# Altium footprint library QFN.PcbLib: 13 footprints
Each footprint in its own frame and in the unit in brackets; x right, y up, seen from the top. Pads: shape width x height; smd on the part's side, far side on the other; paste and mask are expansions set on the pad; w line width, h text height; cw(c..) or ccw(c..) is an arc to the next point about the centre after c.
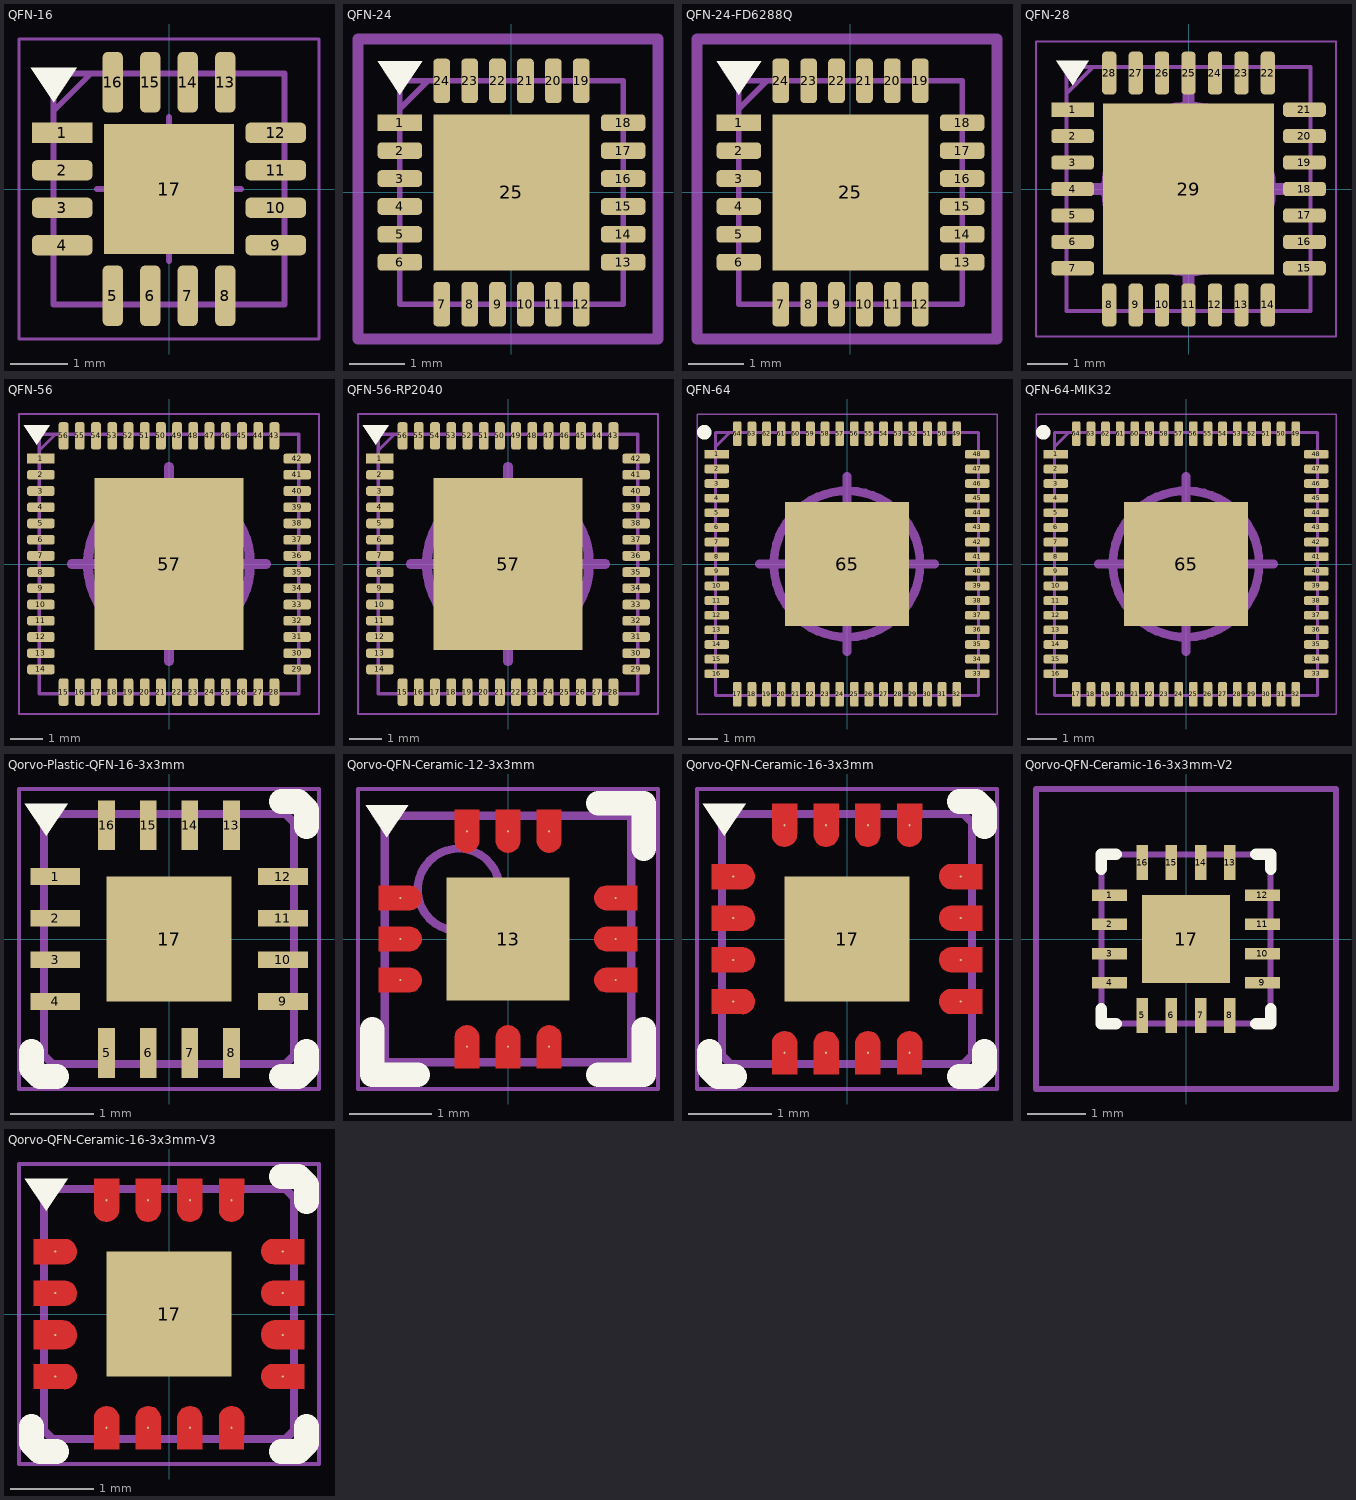
[diagram p0: the footprints below, top view; thin cyan lines are the x and y axes]

## QFN-16 [mm]
pads (17):
  rect 1.05x0.35 smd: 1(-1.85,0.975)
  rrect50% 1.05x0.35 smd: 2(-1.85,0.325) 3(-1.85,-0.325) 4(-1.85,-0.975) 9(1.85,-0.975) 10(1.85,-0.325) 11(1.85,0.325) 12(1.85,0.975)
  rrect50% 0.35x1.05 smd: 5(-0.975,-1.85) 6(-0.325,-1.85) 7(0.325,-1.85) 8(0.975,-1.85) 13(0.975,1.85) 14(0.325,1.85) 15(-0.325,1.85) 16(-0.975,1.85)
  rect 2.25x2.25 smd: 17(0,0)
Top Overlay:
  region: -1.6,2.1 -2.4,2.1 -2,1.5
Top Assembly:
  lines w0.1: -2,1.35 -1.35,2 ; -2,-2 2,-2 2,2 -2,2 -2,-2
Top Component Outline:
  circle w0.1: c0,0 r1
  lines w0.05: -2.6,-2.6 -2.6,2.6 2.6,2.6 2.6,-2.6 -2.6,-2.6
  lines w0.1: -1.25,0 1.25,0 ; 0,-1.25 0,1.25
3D body "QFN-16.stp": height 1, standoff 0, extent -2.355,-2.355 2.355,2.355

## QFN-24 [mm]
pads (25):
  rect 0.8x0.3 smd: 1(-2,1.25)
  rrect50% 0.8x0.3 smd: 2(-2,0.75) 3(-2,0.25) 4(-2,-0.25) 5(-2,-0.75) 6(-2,-1.25) 13(2,-1.25) 14(2,-0.75) 15(2,-0.25) 16(2,0.25) 17(2,0.75) 18(2,1.25)
  rrect50% 0.3x0.8 smd: 7(-1.25,-2) 8(-0.75,-2) 9(-0.25,-2) 10(0.25,-2) 11(0.75,-2) 12(1.25,-2) 19(1.25,2) 20(0.75,2) 21(0.25,2) 22(-0.25,2) 23(-0.75,2) 24(-1.25,2)
  rect 2.8x2.8 smd: 25(0,0)
Top Overlay:
  region: -1.6,2.35 -2.4,2.35 -2,1.75
Top Assembly:
  lines w0.1: -2,1.5 -1.5,2 ; -2,-2 2,-2 2,2 -2,2 -2,-2
Top Component Outline:
  circle w0.1: c0,0 r1
  lines w0.1: -1.25,0 1.25,0 ; 0,-1.25 0,1.25
  lines w0.2: -2.75,-2.625 2.625,-2.625 2.625,2.75 -2.75,2.75 -2.75,-2.625
3D body "QFN-24.stp": height 0.9, standoff 0, extent -2.4,-2.4 2.4,2.4

## QFN-24-FD6288Q [mm]
pads (25):
  rect 0.8x0.3 smd: 1(-2,1.25)
  rrect50% 0.8x0.3 smd: 2(-2,0.75) 3(-2,0.25) 4(-2,-0.25) 5(-2,-0.75) 6(-2,-1.25) 13(2,-1.25) 14(2,-0.75) 15(2,-0.25) 16(2,0.25) 17(2,0.75) 18(2,1.25)
  rrect50% 0.3x0.8 smd: 7(-1.25,-2) 8(-0.75,-2) 9(-0.25,-2) 10(0.25,-2) 11(0.75,-2) 12(1.25,-2) 19(1.25,2) 20(0.75,2) 21(0.25,2) 22(-0.25,2) 23(-0.75,2) 24(-1.25,2)
  rect 2.8x2.8 smd: 25(0,0)
Top Overlay:
  region: -1.6,2.35 -2.4,2.35 -2,1.75
Top Assembly:
  lines w0.1: -2,1.5 -1.5,2 ; -2,-2 -2,2 2,2 2,-2 -2,-2
Top Component Outline:
  circle w0.1: c0,0 r1
  lines w0.1: -1.25,0 1.25,0 ; 0,-1.25 0,1.25
  lines w0.2: -2.75,-2.625 -2.75,2.75 2.625,2.75 2.625,-2.625 -2.75,-2.625
3D body "QFN-24-FD6288Q.stp": height 0.85, standoff 0, extent -2.4,-2.4 2.4,2.4

## QFN-28 [mm]
pads (29):
  rect 1.05x0.35 smd: 1(-2.85,1.95)
  rrect50% 1.05x0.35 smd: 2(-2.85,1.3) 3(-2.85,0.65) 4(-2.85,0) 5(-2.85,-0.65) 6(-2.85,-1.3) 7(-2.85,-1.95) 15(2.85,-1.95) 16(2.85,-1.3) 17(2.85,-0.65) 18(2.85,0) 19(2.85,0.65) 20(2.85,1.3) 21(2.85,1.95)
  rrect50% 0.35x1.05 smd: 8(-1.95,-2.85) 9(-1.3,-2.85) 10(-0.65,-2.85) 11(0,-2.85) 12(0.65,-2.85) 13(1.3,-2.85) 14(1.95,-2.85) 22(1.95,2.85) 23(1.3,2.85) 24(0.65,2.85) 25(0,2.85) 26(-0.65,2.85) 27(-1.3,2.85) 28(-1.95,2.85)
  rect 4.2x4.2 smd: 29(0,0)
Top Overlay:
  region: -2.45,3.15 -3.25,3.15 -2.85,2.55
Top Assembly:
  lines w0.1: -3,2.35 -2.35,3 ; -3,-3 -3,3 3,3 3,-3 -3,-3
Top Component Outline:
  circle w0.3: c0,0 r2
  lines w0.05: -3.75,-3.625 -3.75,3.625 3.625,3.625 3.625,-3.625 -3.75,-3.625
  lines w0.3: -2.5,0 2.5,0 ; 0,-2.5 0,2.5
3D body "QFN-28.stp": height 1, standoff 0, extent -3.375,-3.375 3.375,3.375

## QFN-56 [mm]
pads (57):
  rect 0.85x0.3 smd: 1(-3.95,3.25)
  rrect50% 0.85x0.3 smd: 2(-3.95,2.75) 3(-3.95,2.25) 4(-3.95,1.75) 5(-3.95,1.25) 6(-3.95,0.75) 7(-3.95,0.25) 8(-3.95,-0.25) 9(-3.95,-0.75) 10(-3.95,-1.25) 11(-3.95,-1.75) 12(-3.95,-2.25) 13(-3.95,-2.75) 14(-3.95,-3.25) 29(3.95,-3.25) 30(3.95,-2.75) 31(3.95,-2.25) 32(3.95,-1.75) 33(3.95,-1.25) 34(3.95,-0.75) 35(3.95,-0.25) 36(3.95,0.25) 37(3.95,0.75) 38(3.95,1.25) 39(3.95,1.75) 40(3.95,2.25) 41(3.95,2.75) 42(3.95,3.25)
  rrect50% 0.3x0.85 smd: 15(-3.25,-3.95) 16(-2.75,-3.95) 17(-2.25,-3.95) 18(-1.75,-3.95) 19(-1.25,-3.95) 20(-0.75,-3.95) 21(-0.25,-3.95) 22(0.25,-3.95) 23(0.75,-3.95) 24(1.25,-3.95) 25(1.75,-3.95) 26(2.25,-3.95) 27(2.75,-3.95) 28(3.25,-3.95) 43(3.25,3.95) 44(2.75,3.95) 45(2.25,3.95) 46(1.75,3.95) 47(1.25,3.95) 48(0.75,3.95) 49(0.25,3.95) 50(-0.25,3.95) 51(-0.75,3.95) 52(-1.25,3.95) 53(-1.75,3.95) 54(-2.25,3.95) 55(-2.75,3.95) 56(-3.25,3.95)
  rect 4.6x5.3 smd: 57(0,0)
Top Overlay:
  region: -3.675,4.275 -4.475,4.275 -4.075,3.675
Top Assembly:
  lines w0.1: -4,3.5 -3.5,4 ; -4,-4 -4,4 4,4 4,-4 -4,-4
Top Component Outline:
  circle w0.3: c0,0 r2.5
  lines w0.05: -4.625,-4.625 4.625,-4.625 4.625,4.625 -4.625,4.625 -4.625,-4.625
  lines w0.3: -3,0 3,0 ; 0,-3 0,3
3D body "QFN-56.stp": height 1, standoff 0, extent -4.375,-4.375 4.375,4.375

## QFN-56-RP2040 [mm]
pads (57):
  rect 0.85x0.3 smd: 1(-3.95,3.25)
  rrect50% 0.85x0.3 smd: 2(-3.95,2.75) 3(-3.95,2.25) 4(-3.95,1.75) 5(-3.95,1.25) 6(-3.95,0.75) 7(-3.95,0.25) 8(-3.95,-0.25) 9(-3.95,-0.75) 10(-3.95,-1.25) 11(-3.95,-1.75) 12(-3.95,-2.25) 13(-3.95,-2.75) 14(-3.95,-3.25) 29(3.95,-3.25) 30(3.95,-2.75) 31(3.95,-2.25) 32(3.95,-1.75) 33(3.95,-1.25) 34(3.95,-0.75) 35(3.95,-0.25) 36(3.95,0.25) 37(3.95,0.75) 38(3.95,1.25) 39(3.95,1.75) 40(3.95,2.25) 41(3.95,2.75) 42(3.95,3.25)
  rrect50% 0.3x0.85 smd: 15(-3.25,-3.95) 16(-2.75,-3.95) 17(-2.25,-3.95) 18(-1.75,-3.95) 19(-1.25,-3.95) 20(-0.75,-3.95) 21(-0.25,-3.95) 22(0.25,-3.95) 23(0.75,-3.95) 24(1.25,-3.95) 25(1.75,-3.95) 26(2.25,-3.95) 27(2.75,-3.95) 28(3.25,-3.95) 43(3.25,3.95) 44(2.75,3.95) 45(2.25,3.95) 46(1.75,3.95) 47(1.25,3.95) 48(0.75,3.95) 49(0.25,3.95) 50(-0.25,3.95) 51(-0.75,3.95) 52(-1.25,3.95) 53(-1.75,3.95) 54(-2.25,3.95) 55(-2.75,3.95) 56(-3.25,3.95)
  rect 4.6x5.3 smd: 57(0,0)
Top Overlay:
  region: -3.675,4.275 -4.475,4.275 -4.075,3.675
Top Assembly:
  lines w0.1: -4,3.5 -3.5,4 ; -4,-4 -4,4 4,4 4,-4 -4,-4
Top Component Outline:
  circle w0.3: c0,0 r2.5
  lines w0.05: -4.625,-4.625 4.625,-4.625 4.625,4.625 -4.625,4.625 -4.625,-4.625
  lines w0.3: -3,0 3,0 ; 0,-3 0,3
3D body "QFN-56-RP2040.stp": height 1, standoff 0, extent -4.375,-4.375 4.375,4.375

## QFN-64 [mm]
pads (65):
  rect 0.85x0.3 smd: 1(-4.45,3.75)
  rrect50% 0.85x0.3 smd: 2(-4.45,3.25) 3(-4.45,2.75) 4(-4.45,2.25) 5(-4.45,1.75) 6(-4.45,1.25) 7(-4.45,0.75) 8(-4.45,0.25) 9(-4.45,-0.25) 10(-4.45,-0.75) 11(-4.45,-1.25) 12(-4.45,-1.75) 13(-4.45,-2.25) 14(-4.45,-2.75) 15(-4.45,-3.25) 16(-4.45,-3.75) 33(4.45,-3.75) 34(4.45,-3.25) 35(4.45,-2.75) 36(4.45,-2.25) 37(4.45,-1.75) 38(4.45,-1.25) 39(4.45,-0.75) 40(4.45,-0.25) 41(4.45,0.25) 42(4.45,0.75) 43(4.45,1.25) 44(4.45,1.75) 45(4.45,2.25) 46(4.45,2.75) 47(4.45,3.25) 48(4.45,3.75)
  rrect50% 0.3x0.85 smd: 17(-3.75,-4.45) 18(-3.25,-4.45) 19(-2.75,-4.45) 20(-2.25,-4.45) 21(-1.75,-4.45) 22(-1.25,-4.45) 23(-0.75,-4.45) 24(-0.25,-4.45) 25(0.25,-4.45) 26(0.75,-4.45) 27(1.25,-4.45) 28(1.75,-4.45) 29(2.25,-4.45) 30(2.75,-4.45) 31(3.25,-4.45) 32(3.75,-4.45) 49(3.75,4.45) 50(3.25,4.45) 51(2.75,4.45) 52(2.25,4.45) 53(1.75,4.45) 54(1.25,4.45) 55(0.75,4.45) 56(0.25,4.45) 57(-0.25,4.45) 58(-0.75,4.45) 59(-1.25,4.45) 60(-1.75,4.45) 61(-2.25,4.45) 62(-2.75,4.45) 63(-3.25,4.45) 64(-3.75,4.45)
  rect 4.25x4.25 smd: 65(0,0)
Top Overlay:
  circle w0.25: c-4.875,4.5 r0.125
Top Assembly:
  lines w0.1: -4.5,4 -4,4.5 ; -4.5,-4.5 4.5,-4.5 4.5,4.5 -4.5,4.5 -4.5,-4.5
Top Component Outline:
  circle w0.3: c0,0 r2.5
  lines w0.05: -5.125,-5.125 5.125,-5.125 5.125,5.125 -5.125,5.125 -5.125,-5.125
  lines w0.3: -3,0 3,0 ; 0,-3 0,3
3D body "QFN-64.stp": height 0.9, standoff 0, extent -4.855,-4.855 4.855,4.855

## QFN-64-MIK32 [mm]
pads (65):
  rect 0.85x0.3 smd: 1(-4.45,3.75)
  rrect50% 0.85x0.3 smd: 2(-4.45,3.25) 3(-4.45,2.75) 4(-4.45,2.25) 5(-4.45,1.75) 6(-4.45,1.25) 7(-4.45,0.75) 8(-4.45,0.25) 9(-4.45,-0.25) 10(-4.45,-0.75) 11(-4.45,-1.25) 12(-4.45,-1.75) 13(-4.45,-2.25) 14(-4.45,-2.75) 15(-4.45,-3.25) 16(-4.45,-3.75) 33(4.45,-3.75) 34(4.45,-3.25) 35(4.45,-2.75) 36(4.45,-2.25) 37(4.45,-1.75) 38(4.45,-1.25) 39(4.45,-0.75) 40(4.45,-0.25) 41(4.45,0.25) 42(4.45,0.75) 43(4.45,1.25) 44(4.45,1.75) 45(4.45,2.25) 46(4.45,2.75) 47(4.45,3.25) 48(4.45,3.75)
  rrect50% 0.3x0.85 smd: 17(-3.75,-4.45) 18(-3.25,-4.45) 19(-2.75,-4.45) 20(-2.25,-4.45) 21(-1.75,-4.45) 22(-1.25,-4.45) 23(-0.75,-4.45) 24(-0.25,-4.45) 25(0.25,-4.45) 26(0.75,-4.45) 27(1.25,-4.45) 28(1.75,-4.45) 29(2.25,-4.45) 30(2.75,-4.45) 31(3.25,-4.45) 32(3.75,-4.45) 49(3.75,4.45) 50(3.25,4.45) 51(2.75,4.45) 52(2.25,4.45) 53(1.75,4.45) 54(1.25,4.45) 55(0.75,4.45) 56(0.25,4.45) 57(-0.25,4.45) 58(-0.75,4.45) 59(-1.25,4.45) 60(-1.75,4.45) 61(-2.25,4.45) 62(-2.75,4.45) 63(-3.25,4.45) 64(-3.75,4.45)
  rect 4.25x4.25 smd: 65(0,0)
Top Overlay:
  circle w0.25: c-4.875,4.5 r0.125
Top Assembly:
  lines w0.1: -4.5,4 -4,4.5 ; -4.5,-4.5 4.5,-4.5 4.5,4.5 -4.5,4.5 -4.5,-4.5
Top Component Outline:
  circle w0.3: c0,0 r2.5
  lines w0.05: -5.125,-5.125 5.125,-5.125 5.125,5.125 -5.125,5.125 -5.125,-5.125
  lines w0.3: -3,0 3,0 ; 0,-3 0,3
3D body "QFN-64_MIK32.stp": height 1, standoff 0, extent -4.855,-4.855 4.855,4.855

## Qorvo-Plastic-QFN-16-3x3mm [mm]
height 0.8
pads (17):
  rect 0.6x0.2 smd mask+0.15: 1(-1.365,0.75) 2(-1.365,0.25) 3(-1.365,-0.25) 4(-1.365,-0.75) 9(1.365,-0.75) 10(1.365,-0.25) 11(1.365,0.25) 12(1.365,0.75)
  rect 0.2x0.6 smd mask+0.15: 5(-0.75,-1.365) 6(-0.25,-1.365) 7(0.25,-1.365) 8(0.75,-1.365) 13(0.75,1.365) 14(0.25,1.365) 15(-0.25,1.365) 16(-0.75,1.365)
  rect 1.5x1.5 smd mask+0.15: 17(0,0)
Top Overlay:
  region: -1.216,1.626 -1.731,1.626 -1.473,1.239
  lines w0.3: -1.65,-1.35 -1.65,-1.55 -1.55,-1.65 -1.35,-1.65 ; 1.35,-1.65 1.55,-1.65 1.65,-1.55 1.65,-1.35 ; 1.35,1.65 1.55,1.65 1.65,1.55 1.65,1.35
Top Assembly:
  lines w0.1: -1.5,-1.4 -1.5,1.4 -1.4,1.5 1.4,1.5 1.5,1.4 1.5,-1.4 1.4,-1.5 -1.4,-1.5 -1.5,-1.4
Top Component Outline:
  lines w0.05: -1.8,-1.8 -1.8,1.8 1.8,1.8 1.8,-1.8 -1.8,-1.8
Bottom Component Outline:
  lines w0.1: -0.5,0 0.5,0 ; 0,-0.5 0,0.5
3D body "Qorvo-Plastic-QFN-16-3x3mm.stp": height 0.8, standoff 0, extent -1.665,-1.665 1.665,1.665

## Qorvo-QFN-Ceramic-12-3x3mm [mil]
height 31.5
pads (13):
  round 1 smd mask+4.72: 1(-51.57,19.69) 2(-51.57,0) 3(-51.57,-19.68) 4(-19.69,-51.57) 5(0,-51.57) 6(19.68,-51.57) 7(51.57,-19.69) 8(51.57,0) 9(51.57,19.68) 10(19.69,51.57) 11(0,51.57) 12(-19.68,51.57)
  rect 59.06x59.06 smd mask+4.72: 13(0,0)
Top Layer:
  region: -25.59,61.81 -25.59,47.22 -25.59,46.64 -25.36,45.5 -24.92,44.43 -24.28,43.47 -23.46,42.65 -22.49,42.01 -21.42,41.56 -20.29,41.34 -19.71,41.34 -19.12,41.34 -17.98,41.57 -16.9,42.01 -15.93,42.66 -15.1,43.49 -14.45,44.46 -14.01,45.54 -13.78,46.68 -13.78,47.27 -13.78,61.81
  region: -5.91,61.81 -5.91,47.22 -5.91,46.64 -5.68,45.5 -5.24,44.43 -4.59,43.47 -3.77,42.65 -2.81,42.01 -1.74,41.56 -0.6,41.34 -0.02,41.34 0.56,41.34 1.71,41.57 2.78,42.01 3.76,42.66 4.58,43.49 5.23,44.46 5.68,45.54 5.91,46.68 5.91,47.27 5.91,61.81
  region: 13.78,61.81 13.78,47.22 13.78,46.64 14.01,45.5 14.45,44.43 15.09,43.47 15.91,42.65 16.88,42.01 17.95,41.56 19.08,41.34 19.66,41.34 20.25,41.34 21.39,41.57 22.47,42.01 23.44,42.66 24.27,43.49 24.92,44.46 25.36,45.54 25.59,46.68 25.59,47.27 25.59,61.81
  region: 61.81,25.59 47.22,25.59 46.64,25.59 45.5,25.36 44.43,24.92 43.47,24.28 42.65,23.46 42.01,22.49 41.56,21.42 41.34,20.29 41.34,19.71 41.34,19.12 41.57,17.98 42.01,16.9 42.66,15.93 43.49,15.1 44.46,14.45 45.54,14.01 46.68,13.78 47.27,13.78 61.81,13.78
  region: 61.81,5.91 47.22,5.91 46.64,5.91 45.5,5.68 44.43,5.24 43.47,4.59 42.65,3.77 42.01,2.81 41.56,1.74 41.34,0.6 41.34,0.02 41.34,-0.56 41.57,-1.71 42.01,-2.78 42.66,-3.76 43.49,-4.58 44.46,-5.23 45.54,-5.68 46.68,-5.91 47.27,-5.91 61.81,-5.91
  region: 61.81,-13.78 47.22,-13.78 46.64,-13.78 45.5,-14.01 44.43,-14.45 43.47,-15.09 42.65,-15.91 42.01,-16.88 41.56,-17.95 41.34,-19.08 41.34,-19.66 41.34,-20.25 41.57,-21.39 42.01,-22.47 42.66,-23.44 43.49,-24.27 44.46,-24.92 45.54,-25.36 46.68,-25.59 47.27,-25.59 61.81,-25.59
  region: 25.59,-61.81 25.59,-47.22 25.59,-46.64 25.36,-45.5 24.92,-44.43 24.28,-43.47 23.46,-42.65 22.49,-42.01 21.42,-41.56 20.29,-41.34 19.71,-41.34 19.12,-41.34 17.98,-41.57 16.9,-42.01 15.93,-42.66 15.1,-43.49 14.45,-44.46 14.01,-45.54 13.78,-46.68 13.78,-47.27 13.78,-61.81
  region: 5.91,-61.81 5.91,-47.22 5.91,-46.64 5.68,-45.5 5.24,-44.43 4.59,-43.47 3.77,-42.65 2.81,-42.01 1.74,-41.56 0.6,-41.34 0.02,-41.34 -0.56,-41.34 -1.71,-41.57 -2.78,-42.01 -3.76,-42.66 -4.58,-43.49 -5.23,-44.46 -5.68,-45.54 -5.91,-46.68 -5.91,-47.27 -5.91,-61.81
  region: -13.78,-61.81 -13.78,-47.22 -13.78,-46.64 -14.01,-45.5 -14.45,-44.43 -15.09,-43.47 -15.91,-42.65 -16.88,-42.01 -17.95,-41.56 -19.08,-41.34 -19.66,-41.34 -20.25,-41.34 -21.39,-41.57 -22.47,-42.01 -23.44,-42.66 -24.27,-43.49 -24.92,-44.46 -25.36,-45.54 -25.59,-46.68 -25.59,-47.27 -25.59,-61.81
  region: -61.81,-25.59 -47.22,-25.59 -46.64,-25.59 -45.5,-25.36 -44.43,-24.92 -43.47,-24.28 -42.65,-23.46 -42.01,-22.49 -41.56,-21.42 -41.34,-20.29 -41.34,-19.71 -41.34,-19.12 -41.57,-17.98 -42.01,-16.9 -42.66,-15.93 -43.49,-15.1 -44.46,-14.45 -45.54,-14.01 -46.68,-13.78 -47.27,-13.78 -61.81,-13.78
  region: -61.81,-5.91 -47.22,-5.91 -46.64,-5.91 -45.5,-5.68 -44.43,-5.24 -43.47,-4.59 -42.65,-3.77 -42.01,-2.81 -41.56,-1.74 -41.34,-0.6 -41.34,-0.02 -41.34,0.56 -41.57,1.71 -42.01,2.78 -42.66,3.76 -43.49,4.58 -44.46,5.23 -45.54,5.68 -46.68,5.91 -47.27,5.91 -61.81,5.91
  region: -61.81,13.78 -47.22,13.78 -46.64,13.78 -45.5,14.01 -44.43,14.45 -43.47,15.09 -42.65,15.91 -42.01,16.88 -41.56,17.95 -41.34,19.08 -41.34,19.66 -41.34,20.25 -41.57,21.39 -42.01,22.47 -42.66,23.44 -43.49,24.27 -44.46,24.92 -45.54,25.36 -46.68,25.59 -47.27,25.59 -61.81,25.59
Top Overlay:
  region: -47.86,64 -68.14,64 -58,48.8
  lines w11.81: -64.96,-43.31 -64.96,-64.96 -43.31,-64.96 ; 43.31,-64.96 64.96,-64.96 64.96,-43.31 ; 43.31,64.96 64.96,64.96 64.96,43.31
Top Assembly:
  circle w3.94: c-23.62,23.62 r19.68
  lines w3.94: -59.06,-59.06 -59.06,59.06 59.06,59.06 59.06,-59.06 -59.06,-59.06
Top Component Outline:
  lines w1.97: -71.85,-71.85 71.85,-71.85 71.85,71.85 -71.85,71.85 -71.85,-71.85
Bottom Component Outline:
  lines w3.94: -19.69,0 19.68,0 ; 0,-19.68 0,19.69
3D body "Qorvo-QFN-Ceramic-12-3x3mm.stp": height 31.5, standoff 0, extent -61.81,-61.81 61.81,61.81

## Qorvo-QFN-Ceramic-16-3x3mm [mm]
height 0.8
pads (17):
  round 0.025 smd mask+0.12: 1(-1.365,0.75) 2(-1.365,0.25) 3(-1.365,-0.25) 4(-1.365,-0.75) 5(-0.75,-1.365) 6(-0.25,-1.365) 7(0.25,-1.365) 8(0.75,-1.365) 9(1.365,-0.75) 10(1.365,-0.25) 11(1.365,0.25) 12(1.365,0.75) 13(0.75,1.365) 14(0.25,1.365) 15(-0.25,1.365) 16(-0.75,1.365)
  rect 1.5x1.5 smd mask+0.12: 17(0,0)
Top Layer:
  region: -1.625,0.6 -1.254,0.6 -1.24,0.6 -1.211,0.606 -1.184,0.617 -1.159,0.633 -1.138,0.654 -1.122,0.679 -1.111,0.706 -1.105,0.735 -1.105,0.749 -1.105,0.764 -1.111,0.793 -1.122,0.821 -1.139,0.845 -1.16,0.866 -1.184,0.883 -1.212,0.894 -1.241,0.9 -1.256,0.9 -1.625,0.9
  region: -1.625,0.1 -1.254,0.1 -1.24,0.1 -1.211,0.106 -1.184,0.117 -1.159,0.133 -1.138,0.154 -1.122,0.179 -1.111,0.206 -1.105,0.235 -1.105,0.249 -1.105,0.264 -1.111,0.293 -1.122,0.321 -1.139,0.345 -1.16,0.366 -1.184,0.383 -1.212,0.394 -1.241,0.4 -1.256,0.4 -1.625,0.4
  region: -1.625,-0.4 -1.254,-0.4 -1.24,-0.4 -1.211,-0.394 -1.184,-0.383 -1.159,-0.367 -1.138,-0.346 -1.122,-0.321 -1.111,-0.294 -1.105,-0.265 -1.105,-0.251 -1.105,-0.236 -1.111,-0.207 -1.122,-0.179 -1.139,-0.155 -1.16,-0.134 -1.184,-0.117 -1.212,-0.106 -1.241,-0.1 -1.256,-0.1 -1.625,-0.1
  region: -1.625,-0.9 -1.254,-0.9 -1.24,-0.9 -1.211,-0.894 -1.184,-0.883 -1.159,-0.867 -1.138,-0.846 -1.122,-0.821 -1.111,-0.794 -1.105,-0.765 -1.105,-0.751 -1.105,-0.736 -1.111,-0.707 -1.122,-0.679 -1.139,-0.655 -1.16,-0.634 -1.184,-0.617 -1.212,-0.606 -1.241,-0.6 -1.256,-0.6 -1.625,-0.6
  region: -0.6,-1.625 -0.6,-1.254 -0.6,-1.24 -0.606,-1.211 -0.617,-1.184 -0.633,-1.159 -0.654,-1.138 -0.679,-1.122 -0.706,-1.111 -0.735,-1.105 -0.749,-1.105 -0.764,-1.105 -0.793,-1.111 -0.821,-1.122 -0.845,-1.139 -0.866,-1.16 -0.883,-1.184 -0.894,-1.212 -0.9,-1.241 -0.9,-1.256 -0.9,-1.625
  region: -0.1,-1.625 -0.1,-1.254 -0.1,-1.24 -0.106,-1.211 -0.117,-1.184 -0.133,-1.159 -0.154,-1.138 -0.179,-1.122 -0.206,-1.111 -0.235,-1.105 -0.249,-1.105 -0.264,-1.105 -0.293,-1.111 -0.321,-1.122 -0.345,-1.139 -0.366,-1.16 -0.383,-1.184 -0.394,-1.212 -0.4,-1.241 -0.4,-1.256 -0.4,-1.625
  region: 0.4,-1.625 0.4,-1.254 0.4,-1.24 0.394,-1.211 0.383,-1.184 0.367,-1.159 0.346,-1.138 0.321,-1.122 0.294,-1.111 0.265,-1.105 0.251,-1.105 0.236,-1.105 0.207,-1.111 0.179,-1.122 0.155,-1.139 0.134,-1.16 0.117,-1.184 0.106,-1.212 0.1,-1.241 0.1,-1.256 0.1,-1.625
  region: 0.9,-1.625 0.9,-1.254 0.9,-1.24 0.894,-1.211 0.883,-1.184 0.867,-1.159 0.846,-1.138 0.821,-1.122 0.794,-1.111 0.765,-1.105 0.751,-1.105 0.736,-1.105 0.707,-1.111 0.679,-1.122 0.655,-1.139 0.634,-1.16 0.617,-1.184 0.606,-1.212 0.6,-1.241 0.6,-1.256 0.6,-1.625
  region: 1.625,-0.6 1.254,-0.6 1.24,-0.6 1.211,-0.606 1.184,-0.617 1.159,-0.633 1.138,-0.654 1.122,-0.679 1.111,-0.706 1.105,-0.735 1.105,-0.749 1.105,-0.764 1.111,-0.793 1.122,-0.821 1.139,-0.845 1.16,-0.866 1.184,-0.883 1.212,-0.894 1.241,-0.9 1.256,-0.9 1.625,-0.9
  region: 1.625,-0.1 1.254,-0.1 1.24,-0.1 1.211,-0.106 1.184,-0.117 1.159,-0.133 1.138,-0.154 1.122,-0.179 1.111,-0.206 1.105,-0.235 1.105,-0.249 1.105,-0.264 1.111,-0.293 1.122,-0.321 1.139,-0.345 1.16,-0.366 1.184,-0.383 1.212,-0.394 1.241,-0.4 1.256,-0.4 1.625,-0.4
  region: 1.625,0.4 1.254,0.4 1.24,0.4 1.211,0.394 1.184,0.383 1.159,0.367 1.138,0.346 1.122,0.321 1.111,0.294 1.105,0.265 1.105,0.251 1.105,0.236 1.111,0.207 1.122,0.179 1.139,0.155 1.16,0.134 1.184,0.117 1.212,0.106 1.241,0.1 1.256,0.1 1.625,0.1
  region: 1.625,0.9 1.254,0.9 1.24,0.9 1.211,0.894 1.184,0.883 1.159,0.867 1.138,0.846 1.122,0.821 1.111,0.794 1.105,0.765 1.105,0.751 1.105,0.736 1.111,0.707 1.122,0.679 1.139,0.655 1.16,0.634 1.184,0.617 1.212,0.606 1.241,0.6 1.256,0.6 1.625,0.6
  region: 0.6,1.625 0.6,1.254 0.6,1.24 0.606,1.211 0.617,1.184 0.633,1.159 0.654,1.138 0.679,1.122 0.706,1.111 0.735,1.105 0.749,1.105 0.764,1.105 0.793,1.111 0.821,1.122 0.845,1.139 0.866,1.16 0.883,1.184 0.894,1.212 0.9,1.241 0.9,1.256 0.9,1.625
  region: 0.1,1.625 0.1,1.254 0.1,1.24 0.106,1.211 0.117,1.184 0.133,1.159 0.154,1.138 0.179,1.122 0.206,1.111 0.235,1.105 0.249,1.105 0.264,1.105 0.293,1.111 0.321,1.122 0.345,1.139 0.366,1.16 0.383,1.184 0.394,1.212 0.4,1.241 0.4,1.256 0.4,1.625
  region: -0.4,1.625 -0.4,1.254 -0.4,1.24 -0.394,1.211 -0.383,1.184 -0.367,1.159 -0.346,1.138 -0.321,1.122 -0.294,1.111 -0.265,1.105 -0.251,1.105 -0.236,1.105 -0.207,1.111 -0.179,1.122 -0.155,1.139 -0.134,1.16 -0.117,1.184 -0.106,1.212 -0.1,1.241 -0.1,1.256 -0.1,1.625
  region: -0.9,1.625 -0.9,1.254 -0.9,1.24 -0.894,1.211 -0.883,1.184 -0.867,1.159 -0.846,1.138 -0.821,1.122 -0.794,1.111 -0.765,1.105 -0.751,1.105 -0.736,1.105 -0.707,1.111 -0.679,1.122 -0.655,1.139 -0.634,1.16 -0.617,1.184 -0.606,1.212 -0.6,1.241 -0.6,1.256 -0.6,1.625
Top Overlay:
  region: -1.216,1.626 -1.731,1.626 -1.473,1.239
  lines w0.3: -1.65,-1.35 -1.65,-1.55 -1.55,-1.65 -1.35,-1.65 ; 1.35,-1.65 1.55,-1.65 1.65,-1.55 1.65,-1.35 ; 1.35,1.65 1.55,1.65 1.65,1.55 1.65,1.35
Top Assembly:
  lines w0.1: -1.5,-1.4 -1.4,-1.5 1.4,-1.5 1.5,-1.4 1.5,1.4 1.4,1.5 -1.4,1.5 -1.5,1.4 -1.5,-1.4
Top Component Outline:
  lines w0.05: -1.8,-1.8 1.8,-1.8 1.8,1.8 -1.8,1.8 -1.8,-1.8
Bottom Component Outline:
  lines w0.1: -0.5,0 0.5,0 ; 0,-0.5 0,0.5
3D body "Qorvo-QFN-Ceramic-16-3x3mm-v2.stp": height 0.8, standoff 0, extent -1.625,-1.625 1.625,1.625

## Qorvo-QFN-Ceramic-16-3x3mm-V2 [mm] "Compliant 3x3 SMT Package"
pads (17):
  rect 0.6x0.2 smd: 1(-1.31,0.75) 2(-1.31,0.25) 3(-1.31,-0.25) 4(-1.31,-0.75) 9(1.31,-0.75) 10(1.31,-0.25) 11(1.31,0.25) 12(1.31,0.75)
  rect 0.2x0.6 smd: 5(-0.75,-1.31) 6(-0.25,-1.31) 7(0.25,-1.31) 8(0.75,-1.31) 13(0.75,1.31) 14(0.25,1.31) 15(-0.25,1.31) 16(-0.75,1.31)
  rect 1.5x1.5 smd: 17(0,0)
Top Overlay:
  lines w0.2: -1.45,-1.2 -1.45,-1.45 -1.2,-1.45 ; -1.45,1.2 -1.45,1.45 -1.2,1.45 ; 1.2,-1.45 1.45,-1.45 1.45,-1.2 ; 1.2,1.45 1.45,1.45 1.45,1.2
Top Assembly:
  lines w0.1: -1.45,-1.45 1.45,-1.45 1.45,1.45 -1.45,1.45 -1.45,-1.45
Mechanical 20:
  lines w0.1: -2.57,-2.57 -2.57,2.57 2.57,2.57 2.57,-2.57 -2.57,-2.57
3D body "Qorvo-QFN-Ceramic-16-3x3mm-v2.stp": height 0.8, standoff 0, extent -1.625,-1.625 1.625,1.625

## Qorvo-QFN-Ceramic-16-3x3mm-V3 [mm] "Compliant 3x3 SMT Package / 0.355mm (18GHz)"
height 0.8
pads (17):
  round 0.025 smd mask+0.12: 1(-1.365,0.75) 2(-1.365,0.25) 3(-1.365,-0.25) 4(-1.365,-0.75) 5(-0.75,-1.365) 6(-0.25,-1.365) 7(0.25,-1.365) 8(0.75,-1.365) 9(1.365,-0.75) 10(1.365,-0.25) 11(1.365,0.25) 12(1.365,0.75) 13(0.75,1.365) 14(0.25,1.365) 15(-0.25,1.365) 16(-0.75,1.365)
  rect 1.5x1.5 smd mask+0.12: 17(0,0)
Top Layer:
  region: -1.625,0.6 -1.254,0.6 -1.24,0.6 -1.211,0.606 -1.184,0.617 -1.159,0.633 -1.138,0.654 -1.122,0.679 -1.111,0.706 -1.105,0.735 -1.105,0.749 -1.105,0.764 -1.111,0.793 -1.122,0.821 -1.139,0.845 -1.16,0.866 -1.184,0.883 -1.212,0.894 -1.241,0.9 -1.256,0.9 -1.625,0.9
  region: -1.625,0.1 -1.254,0.1 -1.24,0.1 -1.211,0.106 -1.184,0.117 -1.159,0.133 -1.138,0.154 -1.122,0.179 -1.111,0.206 -1.105,0.235 -1.105,0.249 -1.105,0.264 -1.111,0.293 -1.122,0.321 -1.139,0.345 -1.16,0.366 -1.184,0.383 -1.212,0.394 -1.241,0.4 -1.256,0.4 -1.625,0.4
  region: -1.625,-0.9 -1.254,-0.9 -1.24,-0.9 -1.211,-0.894 -1.184,-0.883 -1.159,-0.867 -1.138,-0.846 -1.122,-0.821 -1.111,-0.794 -1.105,-0.765 -1.105,-0.751 -1.105,-0.736 -1.111,-0.707 -1.122,-0.679 -1.139,-0.655 -1.16,-0.634 -1.184,-0.617 -1.212,-0.606 -1.241,-0.6 -1.256,-0.6 -1.625,-0.6
  region: -0.6,-1.625 -0.6,-1.254 -0.6,-1.24 -0.606,-1.211 -0.617,-1.184 -0.633,-1.159 -0.654,-1.138 -0.679,-1.122 -0.706,-1.111 -0.735,-1.105 -0.749,-1.105 -0.764,-1.105 -0.793,-1.111 -0.821,-1.122 -0.845,-1.139 -0.866,-1.16 -0.883,-1.184 -0.894,-1.212 -0.9,-1.241 -0.9,-1.256 -0.9,-1.625
  region: -0.1,-1.625 -0.1,-1.254 -0.1,-1.24 -0.106,-1.211 -0.117,-1.184 -0.133,-1.159 -0.154,-1.138 -0.179,-1.122 -0.206,-1.111 -0.235,-1.105 -0.249,-1.105 -0.264,-1.105 -0.293,-1.111 -0.321,-1.122 -0.345,-1.139 -0.366,-1.16 -0.383,-1.184 -0.394,-1.212 -0.4,-1.241 -0.4,-1.256 -0.4,-1.625
  region: 0.4,-1.625 0.4,-1.254 0.4,-1.24 0.394,-1.211 0.383,-1.184 0.367,-1.159 0.346,-1.138 0.321,-1.122 0.294,-1.111 0.265,-1.105 0.251,-1.105 0.236,-1.105 0.207,-1.111 0.179,-1.122 0.155,-1.139 0.134,-1.16 0.117,-1.184 0.106,-1.212 0.1,-1.241 0.1,-1.256 0.1,-1.625
  region: 0.9,-1.625 0.9,-1.254 0.9,-1.24 0.894,-1.211 0.883,-1.184 0.867,-1.159 0.846,-1.138 0.821,-1.122 0.794,-1.111 0.765,-1.105 0.751,-1.105 0.736,-1.105 0.707,-1.111 0.679,-1.122 0.655,-1.139 0.634,-1.16 0.617,-1.184 0.606,-1.212 0.6,-1.241 0.6,-1.256 0.6,-1.625
  region: 1.625,-0.6 1.254,-0.6 1.24,-0.6 1.211,-0.606 1.184,-0.617 1.159,-0.633 1.138,-0.654 1.122,-0.679 1.111,-0.706 1.105,-0.735 1.105,-0.749 1.105,-0.764 1.111,-0.793 1.122,-0.821 1.139,-0.845 1.16,-0.866 1.184,-0.883 1.212,-0.894 1.241,-0.9 1.256,-0.9 1.625,-0.9
  region: 1.625,0.4 1.254,0.4 1.24,0.4 1.211,0.394 1.184,0.383 1.159,0.367 1.138,0.346 1.122,0.321 1.111,0.294 1.105,0.265 1.105,0.251 1.105,0.236 1.111,0.207 1.122,0.179 1.139,0.155 1.16,0.134 1.184,0.117 1.212,0.106 1.241,0.1 1.256,0.1 1.625,0.1
  region: 1.625,0.9 1.254,0.9 1.24,0.9 1.211,0.894 1.184,0.883 1.159,0.867 1.138,0.846 1.122,0.821 1.111,0.794 1.105,0.765 1.105,0.751 1.105,0.736 1.111,0.707 1.122,0.679 1.139,0.655 1.16,0.634 1.184,0.617 1.212,0.606 1.241,0.6 1.256,0.6 1.625,0.6
  region: 0.6,1.625 0.6,1.254 0.6,1.24 0.606,1.211 0.617,1.184 0.633,1.159 0.654,1.138 0.679,1.122 0.706,1.111 0.735,1.105 0.749,1.105 0.764,1.105 0.793,1.111 0.821,1.122 0.845,1.139 0.866,1.16 0.883,1.184 0.894,1.212 0.9,1.241 0.9,1.256 0.9,1.625
  region: 0.1,1.625 0.1,1.254 0.1,1.24 0.106,1.211 0.117,1.184 0.133,1.159 0.154,1.138 0.179,1.122 0.206,1.111 0.235,1.105 0.249,1.105 0.264,1.105 0.293,1.111 0.321,1.122 0.345,1.139 0.366,1.16 0.383,1.184 0.394,1.212 0.4,1.241 0.4,1.256 0.4,1.625
  region: -0.4,1.625 -0.4,1.254 -0.4,1.24 -0.394,1.211 -0.383,1.184 -0.367,1.159 -0.346,1.138 -0.321,1.122 -0.294,1.111 -0.265,1.105 -0.251,1.105 -0.236,1.105 -0.207,1.111 -0.179,1.122 -0.155,1.139 -0.134,1.16 -0.117,1.184 -0.106,1.212 -0.1,1.241 -0.1,1.256 -0.1,1.625
  region: -0.9,1.625 -0.9,1.254 -0.9,1.24 -0.894,1.211 -0.883,1.184 -0.867,1.159 -0.846,1.138 -0.821,1.122 -0.794,1.111 -0.765,1.105 -0.751,1.105 -0.736,1.105 -0.707,1.111 -0.679,1.122 -0.655,1.139 -0.634,1.16 -0.617,1.184 -0.606,1.212 -0.6,1.241 -0.6,1.256 -0.6,1.625
  region: 1.625,-0.075 1.275,-0.075 1.258,-0.075 1.225,-0.082 1.194,-0.094 1.167,-0.113 1.143,-0.137 1.124,-0.164 1.112,-0.195 1.105,-0.228 1.105,-0.245 1.105,-0.263 1.112,-0.298 1.125,-0.33 1.145,-0.36 1.17,-0.385 1.2,-0.405 1.233,-0.418 1.267,-0.425 1.285,-0.425 1.625,-0.425
  region: -1.625,-0.425 -1.275,-0.425 -1.258,-0.425 -1.225,-0.418 -1.194,-0.406 -1.167,-0.387 -1.143,-0.363 -1.124,-0.336 -1.112,-0.305 -1.105,-0.272 -1.105,-0.255 -1.105,-0.237 -1.112,-0.202 -1.125,-0.17 -1.145,-0.14 -1.17,-0.115 -1.2,-0.095 -1.233,-0.082 -1.267,-0.075 -1.285,-0.075 -1.625,-0.075
Top Overlay:
  region: -1.216,1.626 -1.731,1.626 -1.473,1.239
  lines w0.3: -1.65,-1.35 -1.65,-1.55 -1.55,-1.65 -1.35,-1.65 ; 1.35,-1.65 1.55,-1.65 1.65,-1.55 1.65,-1.35 ; 1.35,1.65 1.55,1.65 1.65,1.55 1.65,1.35
Top Assembly:
  lines w0.1: -1.5,-1.4 -1.4,-1.5 1.4,-1.5 1.5,-1.4 1.5,1.4 1.4,1.5 -1.4,1.5 -1.5,1.4 -1.5,-1.4
Top Component Outline:
  lines w0.05: -1.8,-1.8 1.8,-1.8 1.8,1.8 -1.8,1.8 -1.8,-1.8
Bottom Component Outline:
  lines w0.1: -0.5,0 0.5,0 ; 0,-0.5 0,0.5
3D body "Qorvo-QFN-Ceramic-16-3x3mm-v2.stp": height 0.8, standoff 0, extent -1.625,-1.625 1.625,1.625